# EAGLE library part FREESCALE_CORTEXM4 (library Andrew-Electrical)
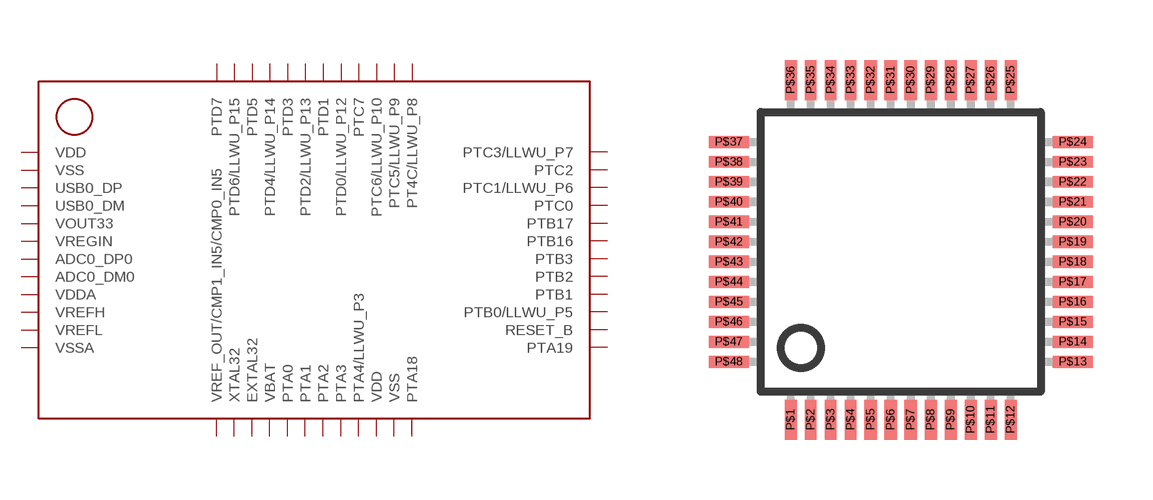
[diagram p7: symbol with the pads of LQFP-48; footprint LQFP-48]

Designator prefix -

## FREESCALE_CORTEXM4-MK20DX32VLF5  [LQFP-48]
P$1  VDD
P$2  VSS
P$3  USB0_DP
P$4  USB0_DM
P$5  VOUT33
P$6  VREGIN
P$7  ADC0_DP0
P$8  ADC0_DM0
P$9  VDDA
P$10  VREFH
P$11  VREFL
P$12  VSSA
P$13  VREF_OUT/CMP1_IN5/CMP0_IN5
P$14  XTAL32
P$15  EXTAL32
P$16  VBAT
P$17  PTA0
P$18  PTA1
P$19  PTA2
P$20  PTA3
P$21  PTA4/LLWU_P3
P$22  VDD
P$23  VSS
P$24  PTA18
P$25  PTA19
P$26  RESET_B
P$27  PTB0/LLWU_P5
P$28  PTB1
P$29  PTB2
P$30  PTB3
P$31  PTB16
P$32  PTB17
P$33  PTC0
P$34  PTC1/LLWU_P6
P$35  PTC2
P$36  PTC3/LLWU_P7
P$37  PT4C/LLWU_P8
P$38  PTC5/LLWU_P9
P$39  PTC6/LLWU_P10
P$40  PTC7
P$41  PTD0/LLWU_P12
P$42  PTD1
P$43  PTD2/LLWU_P13
P$44  PTD3
P$45  PTD4/LLWU_P14
P$46  PTD5
P$47  PTD6/LLWU_P15
P$48  PTD7

## Footprint LQFP-48 (pad centres in mm)
smd 0.3 x 1: P$1 -2.75,-4.2; P$2 -2.25,-4.2; P$3 -1.75,-4.2; P$4 -1.25,-4.2; P$5 -0.75,-4.2; P$6 -0.25,-4.2; P$7 0.25,-4.2; P$8 0.75,-4.2; P$9 1.25,-4.2; P$10 1.75,-4.2; P$11 2.25,-4.2; P$12 2.75,-4.2; P$25 2.75,4.3; P$26 2.25,4.3; P$27 1.75,4.3; P$28 1.25,4.3; P$29 0.75,4.3; P$30 0.25,4.3; P$31 -0.25,4.3; P$32 -0.75,4.3; P$33 -1.25,4.3; P$34 -1.75,4.3; P$35 -2.25,4.3; P$36 -2.75,4.3
smd 1 x 0.3: P$13 4.3,-2.75; P$14 4.3,-2.25; P$15 4.3,-1.75; P$16 4.3,-1.25; P$17 4.3,-0.75; P$18 4.3,-0.25; P$19 4.3,0.25; P$20 4.3,0.75; P$21 4.3,1.25; P$22 4.3,1.75; P$23 4.3,2.25; P$24 4.3,2.75; P$37 -4.3,2.75; P$38 -4.3,2.25; P$39 -4.3,1.75; P$40 -4.3,1.25; P$41 -4.3,0.75; P$42 -4.3,0.25; P$43 -4.3,-0.25; P$44 -4.3,-0.75; P$45 -4.3,-1.25; P$46 -4.3,-1.75; P$47 -4.3,-2.25; P$48 -4.3,-2.75